# EAGLE library part MICS-SMD08 (library con-lumberg)
CONNECTOR
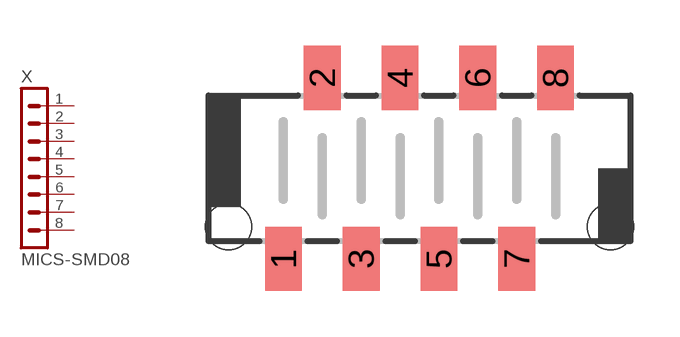
[diagram p28: symbol with the pads of MICSMD08; footprint MICSMD08]

Designator prefix X

## MICS-SMD08 (OC_FARNELL: unknown; OC_NEWARK: unknown)  [MICSMD08]
1  1  pas
2  2  pas
3  3  pas
4  4  pas
5  5  pas
6  6  pas
7  7  pas
8  8  pas

## Footprint MICSMD08 (pad centres in mm)
CONNECTOR
smd 1.2 x 2.1: 1 -4.445,-2.959; 2 -3.175,2.959; 3 -1.905,-2.959; 4 -0.635,2.959; 5 0.635,-2.959; 6 1.905,2.959; 7 3.175,-2.959; 8 4.445,2.959
hole 1.5 at 6.245,-1.912
hole 1.5 at -6.245,-1.912